# EAGLE library part TPS61165DBVR (library ruark2)
IC LED DRIVER RGLTR DIM SOT23-6
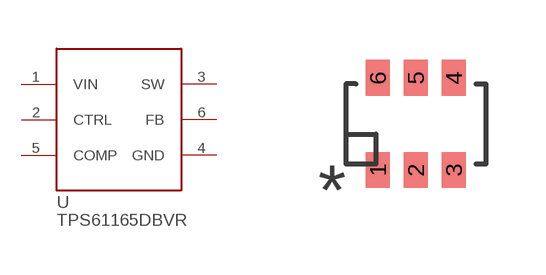
[diagram p139: symbol with the pads of SOT23-6; footprint SOT23-6]

Designator prefix U

## TPS61165DBVR (PARTNO: 296-27597-1-ND)  [SOT23-6]
1  VIN
2  CTRL
3  SW
4  GND
5  COMP
6  FB

## Footprint SOT23-6 (pad centres in mm)
smd 0.6 x 0.9: 1 -0.95,-1.15; 2 0,-1.15; 3 0.95,-1.15; 4 0.95,1.15; 5 0,1.15; 6 -0.95,1.15